# Altium footprint library TAJP106K010RNJ.PcbLib: 1 footprints
Each footprint in its own frame and in the unit in brackets; x right, y up, seen from the top. Pads: shape width x height; smd on the part's side, far side on the other; paste and mask are expansions set on the pad; w line width, h text height; cw(c..) or ccw(c..) is an arc to the next point about the centre after c.
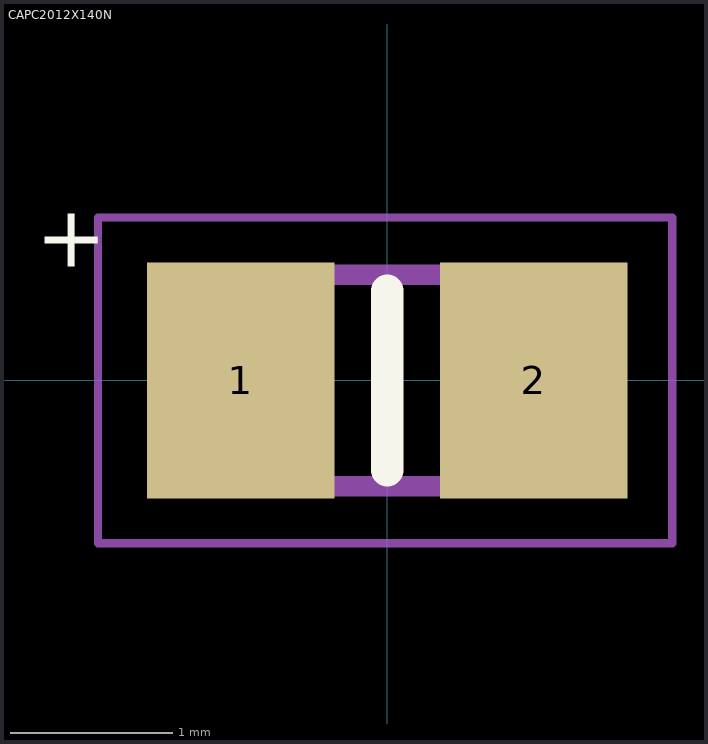
[diagram p0: the footprint, top view; thin cyan lines are the x and y axes]

## CAPC2012X140N [mm]
pads (2):
  rect 1.15x1.45 smd: 1(-0.9,0) 2(0.9,0)
Top Overlay:
  lines w0.2: 0,-0.55 0,0.55
  text "+" at -2.159,0.699 h0.38
Mechanical 13:
  region: 1,-0.65 0.5,-0.65 0.5,0.65 1,0.65
  region: -0.5,-0.65 -1,-0.65 -1,0.65 -0.5,0.65
  lines w0.127: -1,-0.65 -1,0.65 1,0.65 1,-0.65 -1,-0.65
Mechanical 15:
  lines w0.05: -1.778,-1 1.75,-1 1.75,1 -1.778,1 -1.778,-1
3D body "TAJP106K010RNJ.STEP": height 1.2, standoff 0, extent -1.025,-0.65 1.025,0.65